# Altium footprint library kwPower.pcblib: 50 footprints (part 2 of 4)
Each footprint in its own frame and in the unit in brackets; x right, y up, seen from the top. Pads: shape width x height; smd on the part's side, far side on the other; paste and mask are expansions set on the pad; w line width, h text height; cw(c..) or ccw(c..) is an arc to the next point about the centre after c.
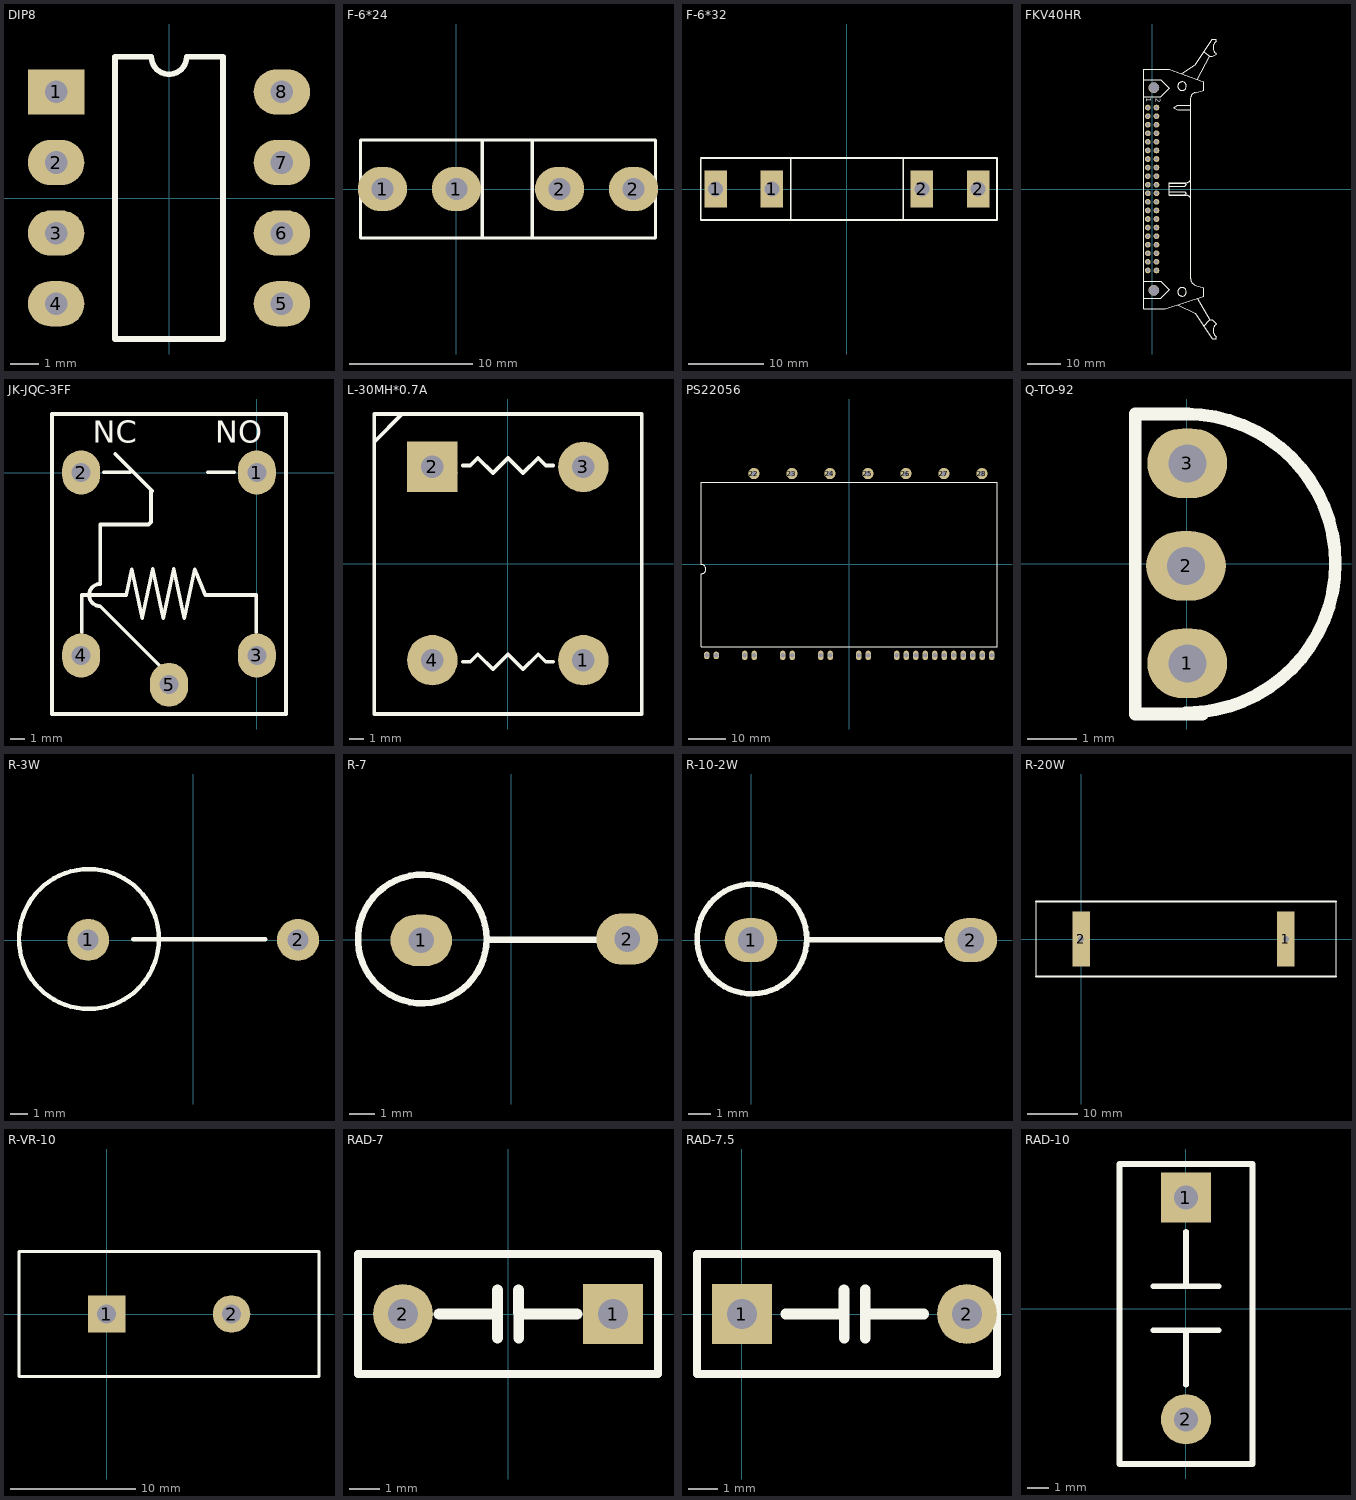
[diagram p1: the footprints below, top view; thin cyan lines are the x and y axes]

## DIP8 [mm]
pads (8):
  rect 2x1.6 hole 0.8: 1(-4,3.758)
  oval 2x1.6 hole 0.8: 2(-4,1.258) 3(-4,-1.242) 4(-4,-3.742) 5(4,-3.742) 6(4,-1.242) 7(4,1.258) 8(4,3.758)
TopOverlay:
  lines w0.2: -1.915,-4.992 -1.915,5.008 -0.625,5.008 ccw(c0,5.008) 0.625,5.008 1.915,5.008 1.915,-4.992 -1.915,-4.992

## F-6*24 [mm]
pads (4):
  oval 4x3.6 hole 1.8: 1(-6,0.008) 1(0,0.008) 2(8.4,0.008) 2(14.4,0.008)
TopOverlay:
  lines w0.254: 2.106,-3.992 2.106,4.008 ; 6.17,-3.992 6.17,4.008 ; -7.8,-3.992 -7.8,4.008 16.2,4.008 16.2,-3.992 -7.8,-3.992

## F-6*32 [mm]
pads (4):
  rect 3x5 hole 2: 1(-17.5,0.008) 1(-10,0.008) 2(10,0.008) 2(17.5,0.008)
TopOverlay:
  lines w0.254: -19.5,-4.142 20,-4.142 ; -19.5,-3.979 -19.5,3.971 ; -19.5,4.158 20,4.158 ; -7.5,-3.979 -7.5,3.971 ; 7.5,-3.979 7.5,3.971 ; 20,-3.979 20,4.022

## FKV40HR [mm]
pads (42):
  round 1.7 hole 1: 1(-1.27,24.138) 2(1.27,24.138) 3(-1.27,21.598) 4(1.27,21.598) 5(-1.27,19.058) 6(1.27,19.058) 7(-1.27,16.518) 8(1.27,16.518) 9(-1.27,13.978) 10(1.27,13.978) 11(-1.27,11.438) 12(1.27,11.438) 13(-1.27,8.898) 14(1.27,8.898) 15(-1.27,6.358) 16(1.27,6.358) 17(-1.27,3.818) 18(1.27,3.818) 19(-1.27,1.278) 20(1.27,1.278) 21(-1.27,-1.262) 22(1.27,-1.262) 23(-1.27,-3.802) 24(1.27,-3.802) 25(-1.27,-6.342) 26(1.27,-6.342) 27(-1.27,-8.882) 28(1.27,-8.882) 29(-1.27,-11.422) 30(1.27,-11.422) 31(-1.27,-13.962) 32(1.27,-13.962) 33(-1.27,-16.502) 34(1.27,-16.502) 35(-1.27,-19.042) 36(1.27,-19.042) 37(-1.27,-21.582) 38(1.27,-21.582) 39(-1.27,-24.122) 40(1.27,-24.122)
  round 3.2 hole 2.946: BO1(0.508,30.023) BO2(0.508,-30.006)
TopOverlay:
  circle w0.203: c8.89,-30.472 r1.27
  circle w0.203: c8.89,30.488 r1.27
  lines w0.203: -2.54,-32.377 2.54,-32.377 5.08,-29.837 2.54,-27.297 -2.54,-27.297 ; -2.54,27.313 2.54,27.313 5.08,29.853 2.54,32.393 -2.54,32.393 ; 5.08,-1.685 9.737,-1.685 10.16,-1.262 9.737,-0.838 5.08,-0.838 ; 5.08,0.855 9.737,0.855 10.16,1.278 9.737,1.702 5.08,1.702 ; 7.62,-34.282 12.7,-36.822 17.78,-44.442 19.05,-44.442 19.05,-43.807 ; 8.89,34.298 12.7,36.838 17.78,44.458 19.05,44.458 19.05,43.823 ; 11.324,26.678 cw(c13.335,26.678) 12.714,28.591 ; 11.43,-3.167 ccw(c10.16,-3.167) 10.16,-1.897 5.08,-1.897 5.08,1.913 10.16,1.913 ccw(c10.16,3.183) 11.43,3.183 ; 11.43,23.503 7.62,23.503 6.35,24.138 7.62,24.773 11.43,24.773 ; 11.43,26.678 11.43,-26.662 ccw(c13.335,-26.662) 12.746,-28.473 ; 12.7,-28.567 15.24,-29.202 15.24,-31.742 3.81,-35.552 -2.54,-35.552 -2.54,35.568 5.08,35.568 15.24,31.758 15.24,29.218 12.7,28.583 ; 13.335,-32.377 17.145,-38.727 ; 13.335,32.393 17.145,39.378 ; 15.24,-40.632 17.145,-38.727 ; 15.24,40.648 17.145,39.378 ; 19.042,-43.797 cw(c20.32,-41.902) 19.042,-40.006 ; 19.042,40.023 cw(c20.32,41.918) 19.042,43.814 ; 19.05,-39.997 17.78,-38.727 17.145,-38.727 ; 19.05,40.013 17.78,39.378 17.145,39.378
  text "1" at -1.676,27.009 h1.52
  text "2" at 1.067,26.907 h1.52

## JK-JQC-3FF [mm]
pads (5):
  oval 2.6x3 hole 1.3: 1(0,0.008) 2(-12,0.008) 3(0,-12.492) 4(-12,-12.492) 5(-6,-14.492)
TopOverlay:
  lines w0.254: -11.968,-10.904 -11.968,-8.364 -8.92,-8.364 -8.539,-6.592 -7.821,-9.944 ; -10.444,0.018 -8.666,0.018 ; -9.682,1.288 -7.142,-1.252 ; -7.821,-9.888 -7.103,-6.586 ; -7.232,-1.162 -7.232,-3.374 -7.396,-3.538 -10.698,-3.538 -10.698,-7.602 ccw(c-10.698,-8.364) -10.698,-9.126 -6.634,-13.19 ; -7.103,-6.592 -6.385,-9.944 -5.667,-6.586 ; -5.667,-6.592 -4.949,-9.944 -4.231,-6.592 -3.513,-8.364 -0.03,-8.364 -0.03,-10.904 ; -3.332,0.018 -1.554,0.018 ; -14,-16.492 -14,4.008 2,4.008 2,-16.492 -14,-16.492
  text "NO" at -2.824,2.05 h1.52
  text "NC" at -11.206,2.05 h1.52

## L-30MH*0.7A [mm]
pads (4):
  round 3.4 / inner round 3.2 / far side round 3.4 hole 1.5: 1(5.08,-6.494) 3(5.08,6.511) 4(-5.08,-6.494)
  rect 3.4x3.4 / inner round 3.2 / far side rect 3.4x3.4 hole 1.5: 2(-5.08,6.511)
TopOverlay:
  lines w0.102: -8.991,8.035 -8.991,8.188
  lines w0.254: -8.991,8.188 -7.112,10.067 ; -8.991,10.004 -8.991,-10.114 9.009,-10.114 9.009,10.004 ; -8.991,10.067 9.008,10.067 ; -3.039,-6.6 -2.531,-6.6 -2.023,-6.092 -1.007,-7.108 0.009,-6.092 1.025,-7.108 2.041,-6.092 2.549,-6.6 3.057,-6.6 ; -3.039,6.608 -2.531,6.608 -2.023,7.116 -1.007,6.1 0.009,7.116 1.025,6.1 2.041,7.116 2.549,6.608 3.057,6.608
  lines w0.305: -4.775,6.485 -3.556,6.104

## PS22056 [mm]
pads (28):
  oval 1.5x2 hole 1.2: 1(-38.1,-24.292) 2(-35.56,-24.292)
  oval 1.5x2.5 hole 1.2: 3(-27.94,-24.292) 4(-25.4,-24.292) 5(-17.78,-24.292) 6(-15.24,-24.292) 7(-7.62,-24.292) 8(-5.08,-24.292) 9(2.54,-24.292) 10(5.08,-24.292) 11(12.7,-24.292) 12(15.24,-24.292) 13(17.78,-24.292) 14(20.32,-24.292) 15(22.86,-24.292) 16(25.4,-24.292) 17(27.94,-24.292) 18(30.48,-24.292) 19(33.02,-24.292) 20(35.56,-24.292) 21(38.1,-24.292)
  round 3 hole 1.5: 22(-25.5,24.308) 23(-15.34,24.308) 24(-5.18,24.308) 25(4.98,24.308) 26(15.14,24.308) 27(25.3,24.308) 28(35.46,24.308)
TopOverlay:
  lines w0.2: -39.5,-21.992 39.5,-21.992 ; -39.5,-2.445 ccw(c-39.5,-1.245) -39.5,-0.045 ; -39.5,22.008 39.5,22.008
  lines w0.203: -39.5,-21.992 -39.5,-2.445 ; -39.5,-0.045 -39.5,22.008 ; 39.5,-21.992 39.5,-2.426 39.5,-0.026 39.5,22.008

## Q-TO-92 [mil]
pads (3):
  oval 63x55 hole 30: 1(0.41,-78.81) 2(-0.59,-1.81) 3(0.41,79.19)
TopOverlay:
  lines w10: -40.59,-118.81 -40.59,118.19 ; -38.59,-118.81 12.41,-118.81 ; -38.59,118.19 -33.59,118.19 1.41,118.19 ; -0.59,-117.81 ccw(c-0.59,0.19) -0.59,118.19

## R-3W [mm]
pads (2):
  round 2.4 hole 1.2: 1(-6,0.008) 2(6,0.008)
TopOverlay:
  circle w0.254: c-5.96,0.059 r4
  lines w0.254: -3.435,0.034 0.045,0.034 4.135,0.034

## R-7 [mm]
pads (2):
  oval 2.4x2 hole 1: 1(-3.505,-0.017) 2(4.505,0.034)
TopOverlay:
  circle w0.254: c-3.465,0.034 r2.5
  lines w0.254: -0.94,0.008 3.54,0.008

## R-10-2W [mm]
pads (2):
  oval 2.4x2 hole 1.2: 1(0,0.008) 2(10,0.008)
TopOverlay:
  circle w0.254: c0.04,0.059 r2.5
  lines w0.254: 2.565,0.034 6.045,0.034 8.611,0.034

## R-20W [mm]
pads (2):
  rect 3.5x11 hole 1.2: 1(41,0.008) 2(0,0.008)
TopOverlay:
  lines w0.203: -9,-7.492 -9,7.508 ; 51,-7.492 51,7.508
  lines w0.305: -9,-7.492 51,-7.492 ; -9,7.508 51,7.508

## R-VR-10 [mm]
pads (2):
  rect 3x3 hole 1.5: 1(0,0.008)
  round 3 hole 1.5: 2(10,0.008)
TopOverlay:
  lines w0.254: -7,-4.992 -3.491,-4.992 11.509,-4.992 17,-4.992 17,5.008 11.509,5.008 -3.491,5.008 -7,5.008 -7,-4.992

## RAD-7 [mm]
pads (2):
  rect 2x2 / inner round 1.8 / far side rect 2x2 hole 1: 1(3.5,0.008)
  round 2 / inner round 1.8 / far side round 2 hole 1: 2(-3.5,0.008)
TopOverlay:
  lines w0.254: -5,-1.992 5,-1.992 5,2.008 -5,2.008 -5,-1.992
  lines w0.356: -2.3,0.008 -0.4,0.008 ; -0.35,-0.792 -0.35,0.808 ; 0.35,0.808 0.355,-0.792 ; 0.5,0.008 2.3,0.008

## RAD-7.5 [mm]
pads (2):
  rect 2x2 / inner round 1.8 / far side rect 2x2 hole 1: 1(0,0.008)
  round 2 / inner round 1.8 / far side round 2 hole 1: 2(7.5,0.008)
TopOverlay:
  lines w0.254: -1.5,-1.992 8.5,-1.992 8.5,2.008 -1.5,2.008 -1.5,-1.992
  lines w0.356: 1.454,0.008 3.254,0.008 ; 3.399,0.808 3.404,-0.792 ; 4.104,-0.792 4.104,0.808 ; 4.154,0.008 6.054,0.008

## RAD-10 [mm]
pads (2):
  rect 2.3x2.3 / inner round 2.1 / far side rect 2.3x2.3 hole 1.1: 1(0,5.088)
  round 2.3 / inner round 2.1 / far side round 2.3 hole 1.1: 2(0,-5.072)
TopOverlay:
  lines w0.254: -3.048,6.612 -3.048,-7.104 -3.048,-7.12 -2.54,-7.12 2.54,-7.12 3.048,-7.12 3.048,-7.104 3.048,6.612 ; -3.048,6.628 -2.54,6.628 2.54,6.628 3.048,6.628 ; -1.5,-0.981 1.5,-0.981 ; -1.5,1.019 1.5,1.019 ; 0,-3.481 0,-0.981 ; 0,1.019 0,3.519